# Altium footprint library Diode_THT.PcbLib: 111 footprints (part 5 of 7)
Each footprint in its own frame and in the unit in brackets; x right, y up, seen from the top. Pads: shape width x height; smd on the part's side, far side on the other; paste and mask are expansions set on the pad; w line width, h text height; cw(c..) or ccw(c..) is an arc to the next point about the centre after c.
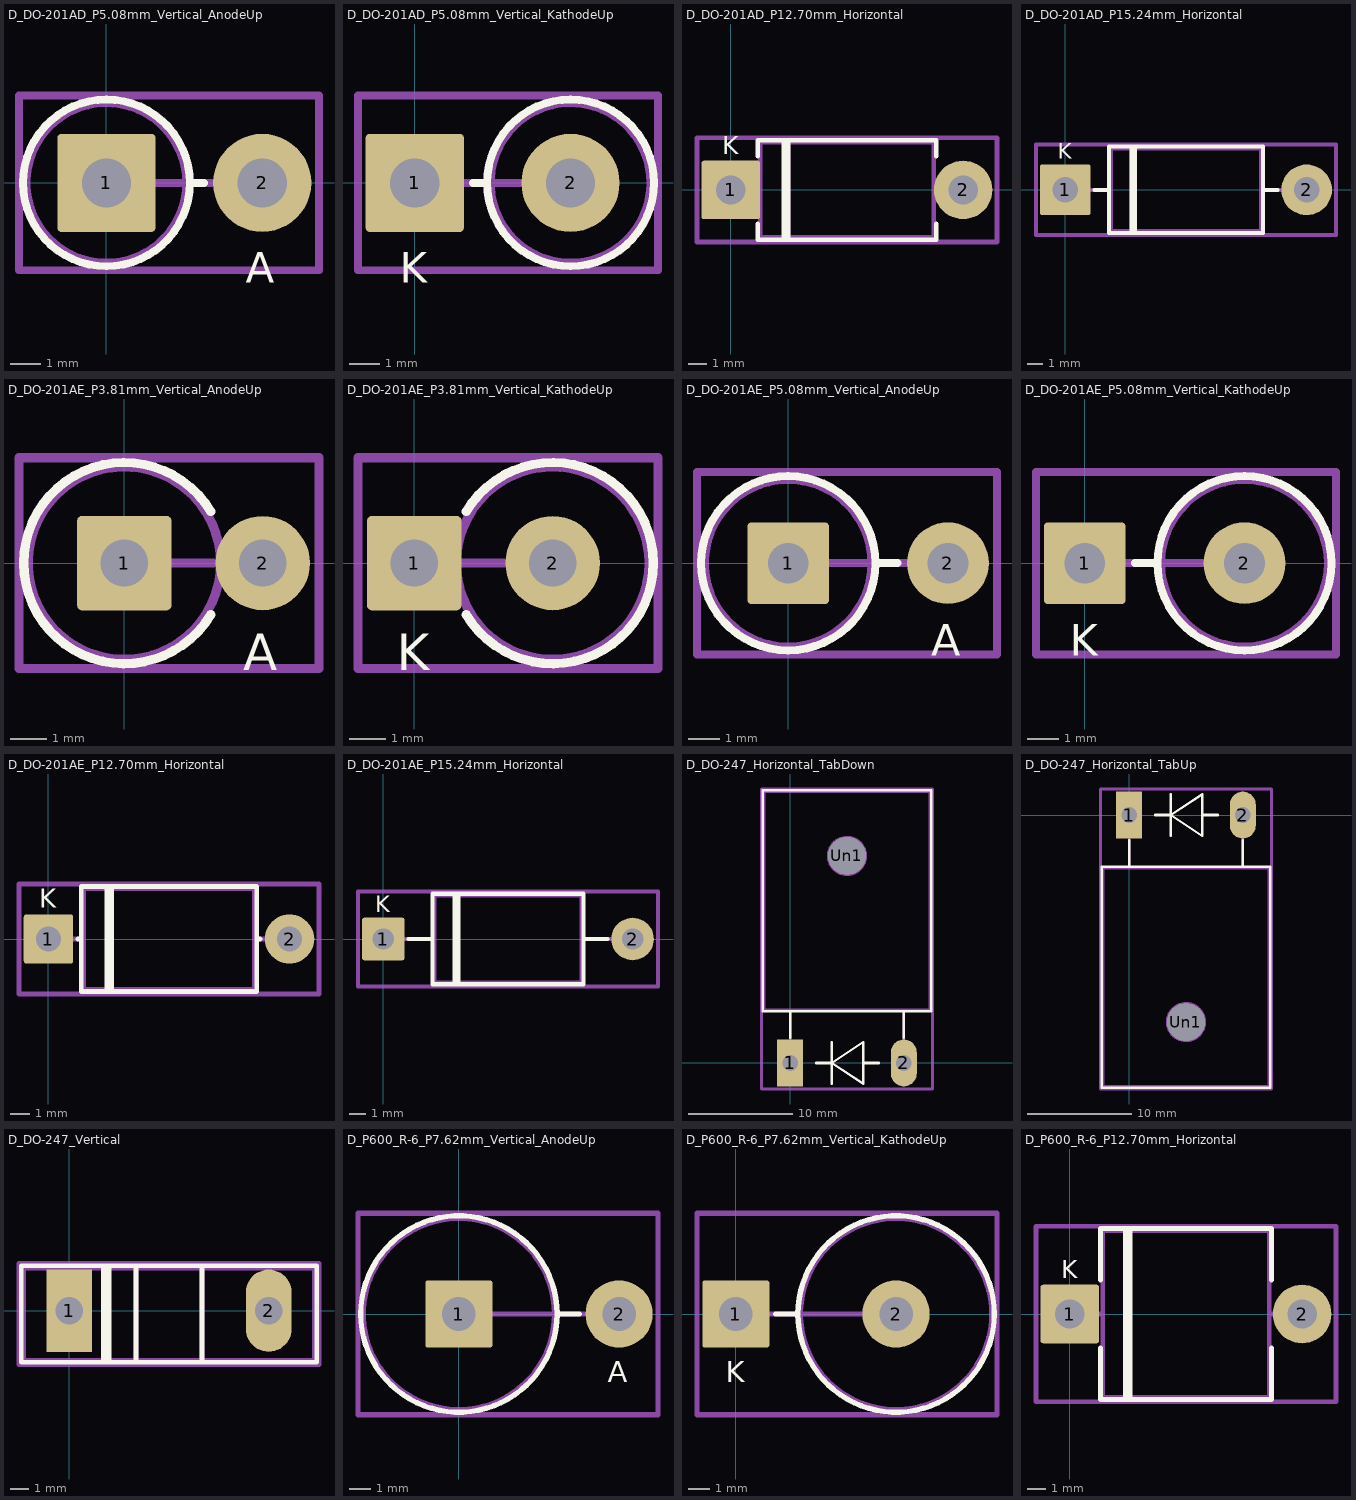
[diagram p4: the footprints below, top view; thin cyan lines are the x and y axes]

## D_DO-201AD_P5.08mm_Vertical_AnodeUp [mm] "D_DO-201AD_P5.08mm_Vertical_AnodeUp"
pads (2):
  rrect8% 3.2x3.2 hole 1.6: 1(0,0)
  round 3.2 hole 1.6: 2(5.08,0)
F.SilkS:
  circle w0.254: c0,0 r2.72
  lines w0.254: 2.72,0 3.18,0
  text "A" at 4.549,-3.25 h1
Top Component Center:
  lines w0.127: -0.127,0 0.127,0 ; 0,-0.127 0,0.127
Top Assembly:
  circle w0.254: c0,0 r2.6
  lines w0.254: 0,0 5.08,0
  text "A" at 4.549,-3.25 h1
Top Courtyard:
  lines w0.254: -2.85,-2.85 6.93,-2.85 6.93,2.85 -2.85,2.85 -2.85,-2.85
Top Designator:
  text ".Designator" at -1.402,1.814 h1.52
3D body "D_DO-201AD_P5.08mm_Vertical_AnodeUp.step": height 12.45, standoff -3, extent -2.598,-2.607 5.73,2.607

## D_DO-201AD_P5.08mm_Vertical_KathodeUp [mm] "D_DO-201AD_P5.08mm_Vertical_KathodeUp"
pads (2):
  rrect8% 3.2x3.2 hole 1.6: 1(0,0)
  round 3.2 hole 1.6: 2(5.08,0)
F.SilkS:
  circle w0.254: c5.08,0 r2.72
  lines w0.254: 1.9,0 2.36,0
  text "K" at -0.483,-3.25 h1
Top Component Center:
  lines w0.127: -0.127,0 0.127,0 ; 0,-0.127 0,0.127
Top Assembly:
  circle w0.254: c5.08,0 r2.6
  lines w0.254: 0,0 5.08,0
  text "K" at -0.483,-3.25 h1
Top Courtyard:
  lines w0.254: -1.85,-2.85 7.93,-2.85 7.93,2.85 -1.85,2.85 -1.85,-2.85
Top Designator:
  text ".Designator" at -0.386,1.687 h1.52
3D body "D_DO-201AD_P5.08mm_Vertical_KathodeUp.step": height 12.45, standoff -3, extent -0.65,-2.607 7.69,2.607

## D_DO-201AD_P12.70mm_Horizontal [mm] "D_DO-201AD_P12.70mm_Horizontal"
pads (2):
  rrect8% 3.2x3.2 hole 1.6: 1(0,0)
  round 3.2 hole 1.6: 2(12.7,0)
F.SilkS:
  lines w0.254: 1.48,-1.84 1.48,-2.72 11.22,-2.72 11.22,-1.84 ; 1.48,1.84 1.48,2.72 11.22,2.72 11.22,1.84 ; 2.905,-2.72 2.905,2.72 ; 3.025,-2.72 3.025,2.72 ; 3.145,-2.72 3.145,2.72
  text "K" at -0.483,1.95 h1
Top Component Center:
  lines w0.127: -0.127,0 0.127,0 ; 0,-0.127 0,0.127
Top Assembly:
  lines w0.254: 0,0 1.6,0 ; 2.925,-2.6 2.925,2.6 ; 3.025,-2.6 3.025,2.6 ; 3.125,-2.6 3.125,2.6 ; 11.1,0 12.7,0 ; 1.6,-2.6 11.1,-2.6 11.1,2.6 1.6,2.6 1.6,-2.6
  text "K" at -0.483,1.95 h1
Top Courtyard:
  lines w0.254: -1.85,-2.85 14.55,-2.85 14.55,2.85 -1.85,2.85 -1.85,-2.85
Top Designator:
  text ".Designator" at 3.805,-0.345 h1.52
3D body "D_DO-201AD_P12.70mm_Horizontal.step": height 5.71, standoff -2.5, extent -0.65,-2.607 13.35,2.607

## D_DO-201AD_P15.24mm_Horizontal [mm] "D_DO-201AD_P15.24mm_Horizontal"
pads (2):
  rrect8% 3.2x3.2 hole 1.6: 1(0,0)
  round 3.2 hole 1.6: 2(15.24,0)
F.SilkS:
  lines w0.254: 1.84,0 2.75,0 ; 4.175,-2.72 4.175,2.72 ; 4.295,-2.72 4.295,2.72 ; 4.415,-2.72 4.415,2.72 ; 12.49,0 13.4,0 ; 2.75,-2.72 12.49,-2.72 12.49,2.72 2.75,2.72 2.75,-2.72
  text "K" at -0.483,1.95 h1
Top Component Center:
  lines w0.127: -0.127,0 0.127,0 ; 0,-0.127 0,0.127
Top Assembly:
  lines w0.254: 0,0 2.87,0 ; 4.195,-2.6 4.195,2.6 ; 4.295,-2.6 4.295,2.6 ; 4.395,-2.6 4.395,2.6 ; 12.37,0 15.24,0 ; 2.87,-2.6 12.37,-2.6 12.37,2.6 2.87,2.6 2.87,-2.6
  text "K" at -0.483,1.95 h1
Top Courtyard:
  lines w0.254: -1.85,-2.85 17.09,-2.85 17.09,2.85 -1.85,2.85 -1.85,-2.85
Top Designator:
  text ".Designator" at 4.821,-0.345 h1.52
3D body "D_DO-201AD_P15.24mm_Horizontal.step": height 5.71, standoff -2.5, extent -0.65,-2.607 15.89,2.607

## D_DO-201AE_P3.81mm_Vertical_AnodeUp [mm] "D_DO-201AE_P3.81mm_Vertical_AnodeUp"
pads (2):
  rrect10% 2.6x2.6 hole 1.3: 1(0,0)
  round 2.6 hole 1.3: 2(3.81,0)
F.SilkS:
  lines w0.254: 2.378,-1.42 cw(c0,0) 2.378,1.42
  text "A" at 3.279,-2.95 h1
Top Component Center:
  lines w0.127: -0.127,0 0.127,0 ; 0,-0.127 0,0.127
Top Assembly:
  circle w0.254: c0,0 r2.65
  lines w0.254: 0,0 3.81,0
  text "A" at 3.279,-2.95 h1
Top Courtyard:
  lines w0.254: -2.9,-2.9 5.36,-2.9 5.36,2.9 -2.9,2.9 -2.9,-2.9
Top Designator:
  text ".Designator" at -2.164,1.687 h1.52

## D_DO-201AE_P3.81mm_Vertical_KathodeUp [mm] "D_DO-201AE_P3.81mm_Vertical_KathodeUp"
pads (2):
  rrect10% 2.6x2.6 hole 1.3: 1(0,0)
  round 2.6 hole 1.3: 2(3.81,0)
F.SilkS:
  lines w0.254: 1.432,-1.42 ccw(c3.81,0) 1.432,1.42
  text "K" at -0.483,-2.95 h1
Top Component Center:
  lines w0.127: -0.127,0 0.127,0 ; 0,-0.127 0,0.127
Top Assembly:
  circle w0.254: c3.81,0 r2.65
  lines w0.254: 0,0 3.81,0
  text "K" at -0.483,-2.95 h1
Top Courtyard:
  lines w0.254: -1.55,-2.9 -1.55,2.9 6.71,2.9 6.71,-2.9 -1.55,-2.9
Top Designator:
  text ".Designator" at -0.767,1.687 h1.52

## D_DO-201AE_P5.08mm_Vertical_AnodeUp [mm] "D_DO-201AE_P5.08mm_Vertical_AnodeUp"
pads (2):
  rrect10% 2.6x2.6 hole 1.3: 1(0,0)
  round 2.6 hole 1.3: 2(5.08,0)
F.SilkS:
  circle w0.254: c0,0 r2.77
  lines w0.254: 2.77,0 3.48,0
  text "A" at 4.549,-2.95 h1
Top Component Center:
  lines w0.127: -0.127,0 0.127,0 ; 0,-0.127 0,0.127
Top Assembly:
  circle w0.254: c0,0 r2.65
  lines w0.254: 0,0 5.08,0
  text "A" at 4.549,-2.95 h1
Top Courtyard:
  lines w0.254: -2.9,-2.9 -2.9,2.9 6.64,2.9 6.64,-2.9 -2.9,-2.9
Top Designator:
  text ".Designator" at -1.148,1.687 h1.52
3D body "D_DO-201AE_P5.08mm_Vertical_AnodeUp.step": height 11.65, standoff -3, extent -2.648,-2.657 5.63,2.657

## D_DO-201AE_P5.08mm_Vertical_KathodeUp [mm] "D_DO-201AE_P5.08mm_Vertical_KathodeUp"
pads (2):
  rrect10% 2.6x2.6 hole 1.3: 1(0,0)
  round 2.6 hole 1.3: 2(5.08,0)
F.SilkS:
  circle w0.254: c5.08,0 r2.77
  lines w0.254: 1.6,0 2.31,0
  text "K" at -0.483,-2.95 h1
Top Component Center:
  lines w0.127: -0.127,0 0.127,0 ; 0,-0.127 0,0.127
Top Assembly:
  circle w0.254: c5.08,0 r2.65
  lines w0.254: 0,0 5.08,0
  text "K" at -0.483,-2.95 h1
Top Courtyard:
  lines w0.254: -1.55,-2.9 7.99,-2.9 7.99,2.9 -1.55,2.9 -1.55,-2.9
Top Designator:
  text ".Designator" at -0.386,1.56 h1.52
3D body "D_DO-201AE_P5.08mm_Vertical_KathodeUp.step": height 11.65, standoff -3, extent -0.55,-2.657 7.74,2.657

## D_DO-201AE_P12.70mm_Horizontal [mm] "D_DO-201AE_P12.70mm_Horizontal"
pads (2):
  rrect10% 2.6x2.6 hole 1.3: 1(0,0)
  round 2.6 hole 1.3: 2(12.7,0)
F.SilkS:
  lines w0.254: 1.54,0 1.73,0 ; 3.08,-2.77 3.08,2.77 ; 3.2,-2.77 3.2,2.77 ; 3.32,-2.77 3.32,2.77 ; 10.97,0 11.16,0 ; 1.73,-2.77 10.97,-2.77 10.97,2.77 1.73,2.77 1.73,-2.77
  text "K" at -0.483,1.65 h1
Top Component Center:
  lines w0.127: -0.127,0 0.127,0 ; 0,-0.127 0,0.127
Top Assembly:
  lines w0.254: 0,0 1.85,0 ; 3.1,-2.65 3.1,2.65 ; 3.2,-2.65 3.2,2.65 ; 3.3,-2.65 3.3,2.65 ; 10.85,0 12.7,0 ; 1.85,-2.65 10.85,-2.65 10.85,2.65 1.85,2.65 1.85,-2.65
  text "K" at -0.483,1.65 h1
Top Courtyard:
  lines w0.254: -1.55,-2.9 14.25,-2.9 14.25,2.9 -1.55,2.9 -1.55,-2.9
Top Designator:
  text ".Designator" at 3.551,-0.345 h1.52
3D body "D_DO-201AE_P12.70mm_Horizontal.step": height 5.81, standoff -2.5, extent -0.55,-2.657 13.25,2.657

## D_DO-201AE_P15.24mm_Horizontal [mm] "D_DO-201AE_P15.24mm_Horizontal"
pads (2):
  rrect10% 2.6x2.6 hole 1.3: 1(0,0)
  round 2.6 hole 1.3: 2(15.24,0)
F.SilkS:
  lines w0.254: 1.54,0 3,0 ; 4.35,-2.77 4.35,2.77 ; 4.47,-2.77 4.47,2.77 ; 4.59,-2.77 4.59,2.77 ; 12.24,0 13.7,0 ; 3,-2.77 12.24,-2.77 12.24,2.77 3,2.77 3,-2.77
  text "K" at -0.483,1.65 h1
Top Component Center:
  lines w0.127: -0.127,0 0.127,0 ; 0,-0.127 0,0.127
Top Assembly:
  lines w0.254: 0,0 3.12,0 ; 4.37,-2.65 4.37,2.65 ; 4.47,-2.65 4.47,2.65 ; 4.57,-2.65 4.57,2.65 ; 12.12,0 15.24,0 ; 3.12,-2.65 12.12,-2.65 12.12,2.65 3.12,2.65 3.12,-2.65
  text "K" at -0.483,1.65 h1
Top Courtyard:
  lines w0.254: -1.55,-2.9 16.79,-2.9 16.79,2.9 -1.55,2.9 -1.55,-2.9
Top Designator:
  text ".Designator" at 4.948,-0.345 h1.52
3D body "D_DO-201AE_P15.24mm_Horizontal.step": height 5.81, standoff -2.5, extent -0.55,-2.657 15.79,2.657

## D_DO-247_Horizontal_TabDown [mm] "D_DO-247_Horizontal_TabDown"
pads (3):
  rect 2.5x4.5 hole 1.5: 1(0,0)
  rrect100% 2.5x4.5 hole 1.5: 2(10.9,0)
  rrect100% 3.6x3.6 hole 3.6: Un1(5.45,19.86)
F.SilkS:
  lines w0.254: 0,2.4 0,4.96 ; 2.5,0 4,0 ; 4,-2 4,2 ; 7,0 8.5,0 ; 10.9,2.4 10.9,4.96 ; 4,0 7,2 7,-2 4,0 ; -2.62,4.96 -2.62,26.15 13.52,26.15 13.52,4.96 -2.62,4.96
Top Component Center:
  lines w0.127: -0.127,0 0.127,0 ; 0,-0.127 0,0.127
Top Assembly:
  circle w0.254: c5.45,19.86 r1.805
  lines w0.254: 0,0 0,5.08 ; 10.9,0 10.9,5.08 ; -2.5,5.08 -2.5,26.03 13.4,26.03 13.4,5.08 -2.5,5.08
  text "'.Designator'" at 1.403,26.31 h1
Top Courtyard:
  lines w0.254: -2.75,-2.5 -2.75,26.28 13.65,26.28 13.65,-2.5 -2.75,-2.5
Top Designator:
  text ".Designator" at 2.016,12.095 h1.52

## D_DO-247_Horizontal_TabUp [mm] "D_DO-247_Horizontal_TabUp"
pads (3):
  rect 2.5x4.5 hole 1.5: 1(0,0)
  rrect100% 2.5x4.5 hole 1.5: 2(10.9,0)
  rrect100% 3.6x3.6 hole 3.6: Un1(5.45,-19.86)
F.SilkS:
  lines w0.254: 0,-4.96 0,-2.4 ; 2.5,0 4,0 ; 4,-2 4,2 ; 7,0 8.5,0 ; 10.9,-4.96 10.9,-2.4 ; 4,0 7,2 7,-2 4,0 ; -2.62,-26.15 -2.62,-4.96 13.52,-4.96 13.52,-26.15 -2.62,-26.15
Top Component Center:
  lines w0.127: -0.127,0 0.127,0 ; 0,-0.127 0,0.127
Top Assembly:
  circle w0.254: c5.45,-19.86 r1.805
  lines w0.254: 0,-5.08 0,0 ; 10.9,-5.08 10.9,0 ; -2.5,-26.03 -2.5,-5.08 13.4,-5.08 13.4,-26.03 -2.5,-26.03
Top Courtyard:
  lines w0.254: -2.75,-26.28 -2.75,2.5 13.65,2.5 13.65,-26.28 -2.75,-26.28
Top Designator:
  text ".Designator" at 2.016,-13.268 h1.52

## D_DO-247_Vertical [mm] "D_DO-247_Vertical"
pads (2):
  rect 2.5x4.5 hole 1.5: 1(0,0)
  rrect100% 2.5x4.5 hole 1.5: 2(10.9,0)
F.SilkS:
  region: 2.3,-2.8 1.75,-2.8 1.75,2.45 2.3,2.45
  lines w0.254: 3.646,-2.82 3.646,2.451 ; 7.255,-2.82 7.255,2.451 ; -2.62,-2.82 13.52,-2.82 13.52,2.451 -2.62,2.451 -2.62,-2.82
Top Component Center:
  lines w0.127: -0.127,0 0.127,0 ; 0,-0.127 0,0.127
Top Assembly:
  lines w0.254: 3.645,-2.7 3.645,2.33 ; 7.255,-2.7 7.255,2.33 ; -2.5,-2.7 -2.5,2.33 13.4,2.33 13.4,-2.7 -2.5,-2.7
Top Courtyard:
  lines w0.254: -2.75,-2.95 13.65,-2.95 13.65,2.59 -2.75,2.59 -2.75,-2.95
Top Designator:
  text ".Designator" at 2.027,-0.345 h1.52
3D body "D_DO-247_Vertical.step": height 25.27, standoff -15.83, extent -2.5,-2.33 13.4,2.7

## D_P600_R-6_P7.62mm_Vertical_AnodeUp [mm] "D_P600_R-6_P7.62mm_Vertical_AnodeUp"
pads (2):
  rrect8% 3.2x3.2 hole 1.6: 1(0,0)
  round 3.2 hole 1.6: 2(7.62,0)
F.SilkS:
  circle w0.254: c0,0 r4.67
  lines w0.254: 4.67,0 5.72,0
  text "A" at 7.089,-3.25 h1
Top Component Center:
  lines w0.127: -0.127,0 0.127,0 ; 0,-0.127 0,0.127
Top Assembly:
  circle w0.254: c0,0 r4.55
  lines w0.254: 0,0 7.62,0
  text "A" at 7.089,-3.25 h1
Top Courtyard:
  lines w0.254: -4.8,-4.8 -4.8,4.8 9.47,4.8 9.47,-4.8 -4.8,-4.8
Top Designator:
  text ".Designator" at -3.307,2.068 h1.52
3D body "D_P600_R-6_P7.62mm_Vertical_AnodeUp.step": height 12.05, standoff -3, extent -4.548,-4.557 8.27,4.557

## D_P600_R-6_P7.62mm_Vertical_KathodeUp [mm] "D_P600_R-6_P7.62mm_Vertical_KathodeUp"
pads (2):
  rrect8% 3.2x3.2 hole 1.6: 1(0,0)
  round 3.2 hole 1.6: 2(7.62,0)
F.SilkS:
  circle w0.254: c7.62,0 r4.67
  lines w0.254: 1.9,0 2.95,0
  text "K" at -0.483,-3.25 h1
Top Component Center:
  lines w0.127: -0.127,0 0.127,0 ; 0,-0.127 0,0.127
Top Assembly:
  circle w0.254: c7.62,0 r4.55
  lines w0.254: 0,0 7.62,0
  text "K" at -0.483,-3.25 h1
Top Courtyard:
  lines w0.254: -1.85,-4.8 12.42,-4.8 12.42,4.8 -1.85,4.8 -1.85,-4.8
Top Designator:
  text ".Designator" at 4.059,2.068 h1.52
3D body "D_P600_R-6_P7.62mm_Vertical_KathodeUp.step": height 12.05, standoff -3, extent -0.65,-4.557 12.18,4.557

## D_P600_R-6_P12.70mm_Horizontal [mm] "D_P600_R-6_P12.70mm_Horizontal"
pads (2):
  rrect8% 3.2x3.2 hole 1.6: 1(0,0)
  round 3.2 hole 1.6: 2(12.7,0)
F.SilkS:
  lines w0.254: 1.68,-1.84 1.68,-4.67 11.02,-4.67 11.02,-1.84 ; 1.68,1.84 1.68,4.67 11.02,4.67 11.02,1.84 ; 3.045,-4.67 3.045,4.67 ; 3.165,-4.67 3.165,4.67 ; 3.285,-4.67 3.285,4.67
  text "K" at -0.483,1.95 h1
Top Component Center:
  lines w0.127: -0.127,0 0.127,0 ; 0,-0.127 0,0.127
Top Assembly:
  lines w0.254: 0,0 1.8,0 ; 3.065,-4.55 3.065,4.55 ; 3.165,-4.55 3.165,4.55 ; 3.265,-4.55 3.265,4.55 ; 10.9,0 12.7,0 ; 1.8,-4.55 10.9,-4.55 10.9,4.55 1.8,4.55 1.8,-4.55
  text "K" at -0.483,1.95 h1
Top Courtyard:
  lines w0.254: -1.85,-4.8 14.55,-4.8 14.55,4.8 -1.85,4.8 -1.85,-4.8
Top Designator:
  text ".Designator" at 3.424,-0.472 h1.52
3D body "D_P600_R-6_P12.70mm_Horizontal.step": height 9.61, standoff -2.5, extent -3.063,-5.207 10.937,3.907